# Altium footprint library Dzr_PcbLib.PcbLib: 1 footprints
Each footprint in its own frame and in the unit in brackets; x right, y up, seen from the top. Pads: shape width x height; smd on the part's side, far side on the other; paste and mask are expansions set on the pad; w line width, h text height; cw(c..) or ccw(c..) is an arc to the next point about the centre after c.
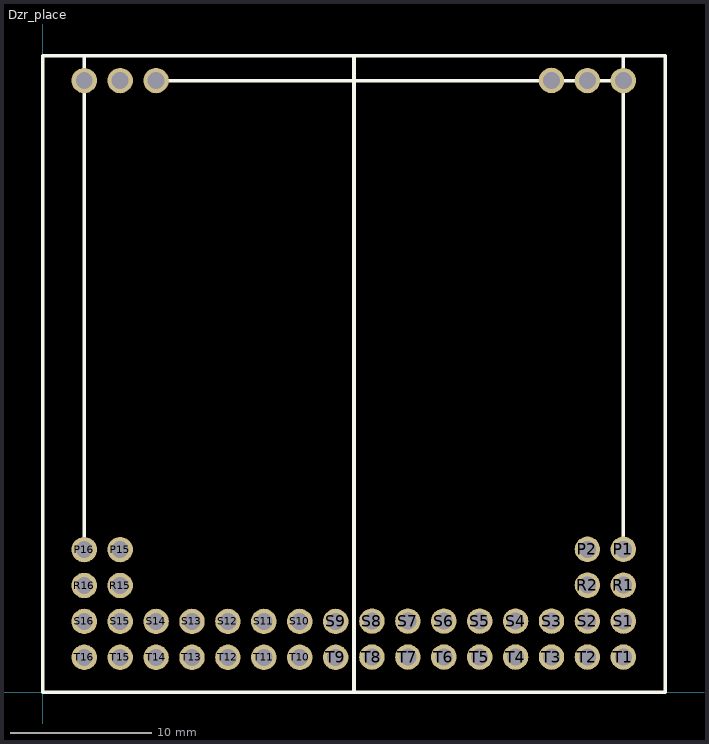
[diagram p0: the footprint, top view; thin cyan lines are the x and y axes]

## Dzr_place [mm]
pads (46):
  round 1.8 hole 1.2: P1(41.05,10.105) P2(38.51,10.105) P15(5.461,10.084) P16(2.921,10.084) R1(41.05,7.565) R2(38.51,7.565) R15(5.461,7.544) R16(2.921,7.544) S1(41.05,5.025) S2(38.51,5.025) S3(35.97,5.025) S4(33.43,5.025) S5(30.89,5.025) S6(28.35,5.025) S7(25.81,5.025) S8(23.27,5.025) S9(20.701,5.004) S10(18.161,5.004) S11(15.621,5.004) S12(13.081,5.004) S13(10.541,5.004) S14(8.001,5.004) S15(5.461,5.004) S16(2.921,5.004) T1(41.05,2.485) T2(38.51,2.485) T3(35.97,2.485) T4(33.43,2.485) T5(30.89,2.485) T6(28.35,2.485) T7(25.81,2.485) T8(23.27,2.485) T9(20.701,2.464) T10(18.161,2.464) T11(15.621,2.464) T12(13.081,2.464) T13(10.541,2.464) T14(8.001,2.464) T15(5.461,2.464) T16(2.921,2.464) ""(2.921,43.256) ""(5.461,43.256) ""(8.001,43.256) ""(35.966,43.265) ""(38.506,43.256) ""(41.046,43.256)
Top Overlay:
  lines w0.254: 2.921,10.084 2.921,44.983 ; 8.001,43.256 41.046,43.256 ; 22,0 22,44.933 ; 41.046,45.009 41.05,10.105 ; 0,0 0,45 44,45 44,1 44,0 0,0